# Altium schematic symbol library D_DualDiodes_Series.SchLib: 1 symbol
Pins are listed as number, name and electrical type; pins without a type are passive.

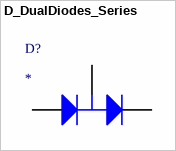
[diagram p0: symbol D_DualDiodes_Series]

## D_DualDiodes_Series
designator D?
pins: 1, 2, 3
1 alternate drawing of the same symbol